# Altium footprint library Capasitor.PcbLib: 18 footprints (part 1 of 2)
Each footprint in its own frame and in the unit in brackets; x right, y up, seen from the top. Pads: shape width x height; smd on the part's side, far side on the other; paste and mask are expansions set on the pad; w line width, h text height; cw(c..) or ccw(c..) is an arc to the next point about the centre after c.
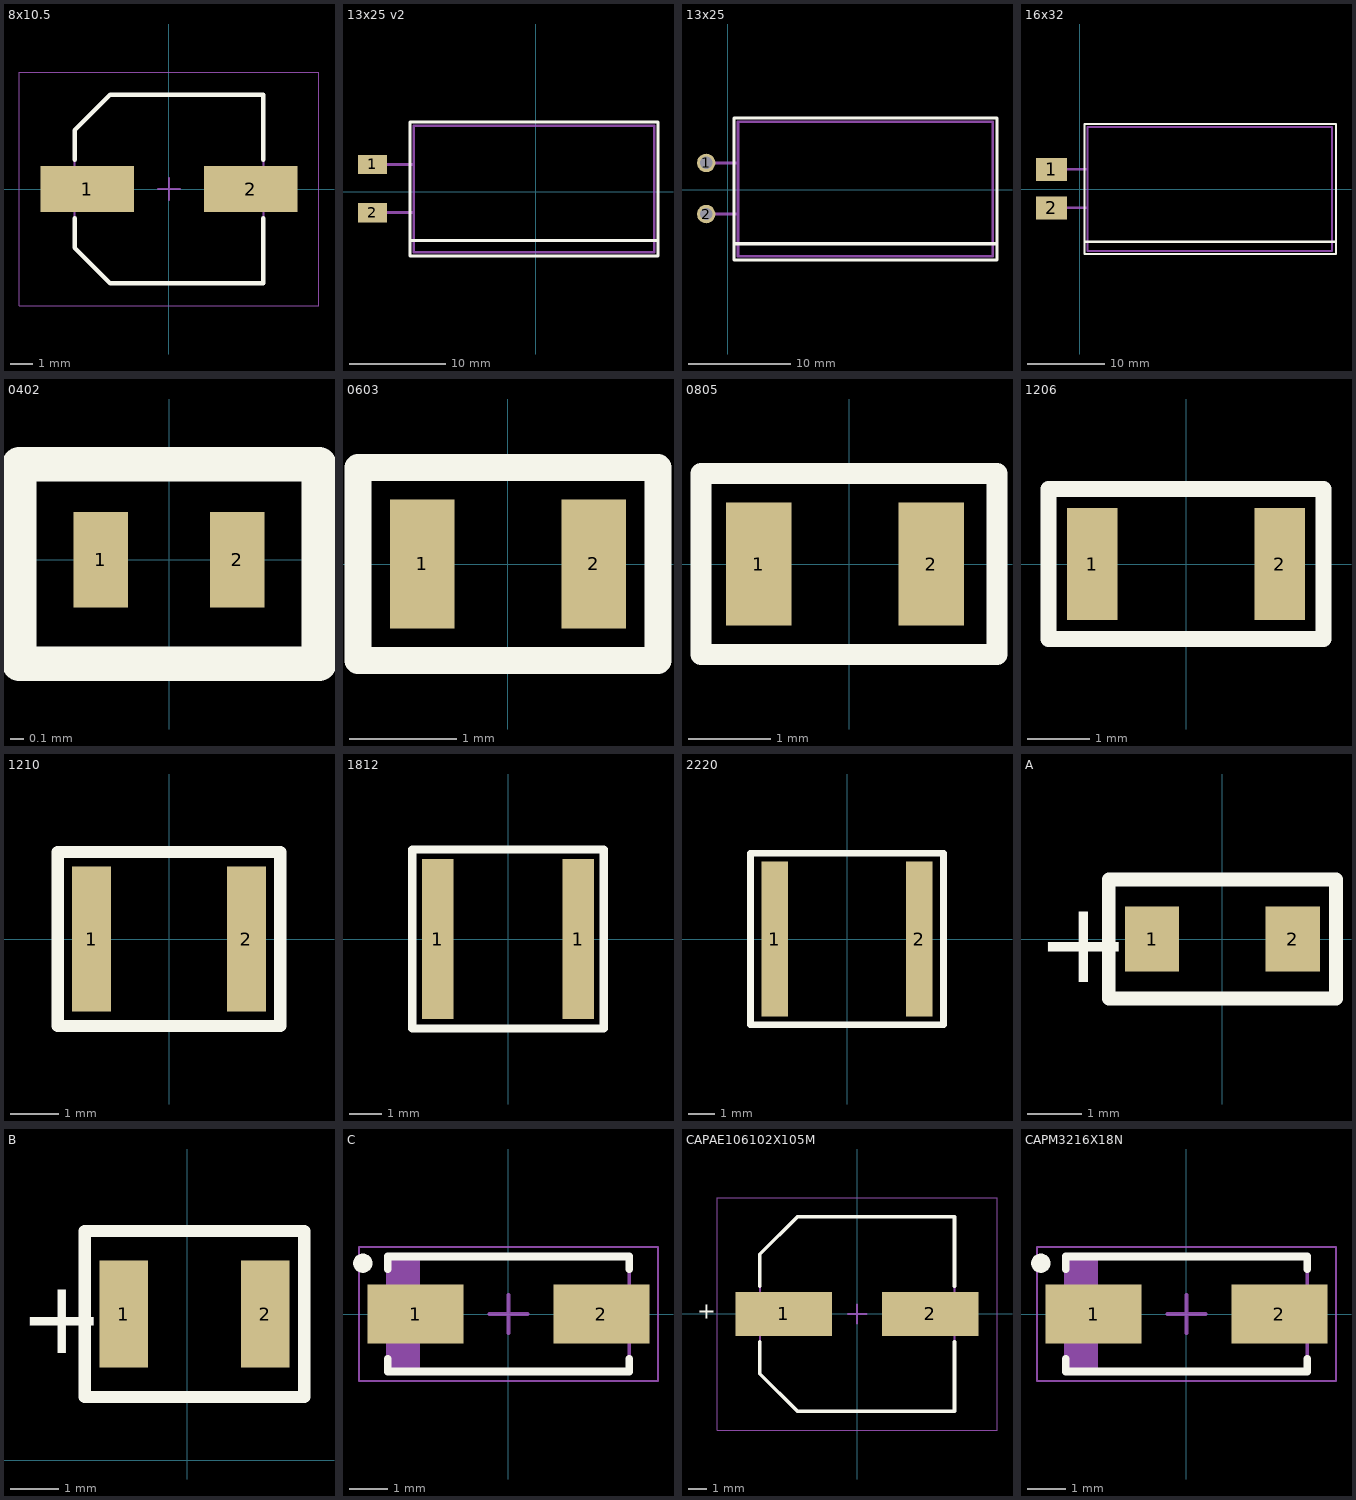
[diagram p0: the footprints below, top view; thin cyan lines are the x and y axes]

## 8x10.5 [mm] "Aluminum Electrolytic Capacitor, Body 8,30x8,30x10,50mm, IPC Low Density"
height 10.5
pads (2):
  rect 4.2x2.05 smd: 1(-3.675,0) 2(3.675,0)
Top Overlay:
  lines w0.2: -4.25,-1.325 -4.25,-2.638 -2.637,-4.25 4.25,-4.25 4.25,-1.325 ; -4.25,1.325 -4.25,2.638 -2.637,4.25 4.25,4.25 4.25,1.325
Mechanical 13:
  lines w0.1: -4.25,-2.638 -2.637,-4.25 4.25,-4.25 4.25,4.25 -2.637,4.25 -4.25,2.638 -4.25,-2.638
Mechanical 15:
  lines w0.05: -6.75,-5.25 -6.75,5.25 6.75,5.25 6.75,-5.25 -6.75,-5.25
  lines w0.1: -0.5,0 0.5,0 ; 0,-0.5 0,0.5
3D body "CAPAE9383X105M.step": height 10.5, standoff 0, extent -4.65,-4.25 4.65,4.25

## 13x25 v2 [mm]
pads (2):
  rect 3x2 smd: 1(-16.952,2.858) 2(-16.952,-2.142)
Top Overlay:
  lines w0.3: -13.052,-5.042 12.648,-5.042 ; -13.052,-6.642 -13.052,7.258 12.648,7.258 12.648,-6.642 -13.052,-6.642
Mechanical 15:
  lines w0.254: -12.652,-6.242 12.248,-6.242 12.248,6.858 -12.652,6.858 -12.652,-6.242
  lines w0.3: -15.752,-2.142 -12.752,-2.142 ; -15.752,2.858 -12.752,2.858
3D body: height 13.5, standoff 0.5, extent -12.752,-6.042 12.248,6.958

## 13х25 [mm]
pads (2):
  round 1.8 hole 1.2: 1(-2.1,2.6) 2(-2.1,-2.4)
Top Overlay:
  lines w0.3: 0.6,-5.3 26.3,-5.3 ; 0.6,-6.9 0.6,7 26.3,7 26.3,-6.9 0.6,-6.9
Mechanical 15:
  lines w0.254: 1,-6.5 25.9,-6.5 25.9,6.6 1,6.6 1,-6.5
  lines w0.3: -2.1,-2.4 0.9,-2.4 ; -2.1,2.6 0.9,2.6
3D body: height 13.5, standoff 0.5, extent 0.9,-6.3 25.9,6.7

## 16х32 [mm]
pads (2):
  rect 4x3 smd: 1(-3.7,2.6) 2(-3.7,-2.4)
Top Overlay:
  lines w0.3: 0.6,-6.8 33.2,-6.8 ; 0.6,-8.4 0.6,8.5 33.3,8.5 33.3,-8.4 0.6,-8.4
Mechanical 15:
  lines w0.254: 1,-8 32.8,-8 32.8,8.1 1,8.1 1,-8
  lines w0.3: -2.1,-2.4 0.9,-2.4 ; -2.1,2.6 0.9,2.6
3D body: height 15, standoff -1, extent 1,-7.8 33,8.2

## 0402 [mm]
pads (2):
  rect 0.4x0.7 smd mask+0.1: 1(-0.5,0) 2(0.5,0)
Top Overlay:
  lines w0.254: -1.1,-0.762 -1.1,0.7 1.1,0.7 1.1,-0.762 -1.1,-0.762
3D body: height 0.5, standoff 0, extent -0.5,-0.3 0.5,0.3

## 0603 [mm]
pads (2):
  rect 0.6x1.2 smd: 1(-0.8,0) 2(0.8,0)
Top Overlay:
  lines w0.254: -1.4,-0.9 -1.4,0.9 -0.5,0.9 0.7,0.9 1.4,0.9 1.4,-0.9 0.675,-0.9 -0.575,-0.9 -1.4,-0.9
3D body: height 0.8, standoff 0, extent -0.8,-0.45 0.8,0.45

## 0805 [mm]
pads (2):
  rect 0.8x1.5 smd: 1(-1.1,0) 2(1,0)
Top Overlay:
  lines w0.254: -1.8,-1.1 -1.8,1.1 1.8,1.1 1.8,0.55 1.8,-0.55 1.8,-1.1 -1.8,-1.1
3D body: height 1.25, standoff 0, extent -1.1,-0.65 1.1,0.65

## 1206 [mm]
pads (2):
  rect 0.8x1.8 smd: 1(-1.5,0) 2(1.5,0)
Top Overlay:
  lines w0.254: -2.2,-1.2 -2.2,1.2 2.2,1.2 2.2,-1.2 -2.2,-1.2
3D body: height 1.6, standoff 0, extent -1.55,-0.8 1.55,0.8

## 1210 [mm]
pads (2):
  rect 0.8x3 smd: 1(-1.6,0) 2(1.6,0)
Top Overlay:
  lines w0.254: -2.3,-1.8 2.3,-1.8 2.3,1.8 -2.3,1.8 -2.3,-1.8
3D body: height 0.25, standoff 0, extent -1272.54,-1272.54 -1267.46,-1267.46

## 1812 [mm]
pads (2):
  rect 1x5 smd: 1(-2.2,0) 1(2.2,0)
Top Overlay:
  lines w0.254: -3,-2.8 -3,2.8 3,2.8 3,-2.8 -3,-2.8
3D body: height 2, standoff 0, extent -2.25,-2.25 2.25,2.25

## 2220 [mm]
pads (2):
  rect 1x5.8 smd: 1(-2.7,0) 2(2.7,0)
Top Overlay:
  lines w0.254: -3.6,-3.2 3.6,-3.2 3.6,3.2 -3.6,3.2 -3.6,-3.2
3D body: height 2, standoff 0, extent -2.75,-2.65 2.75,2.65

## A [mm]
pads (2):
  rect 1x1.2 smd: 1(-1.3,0) 2(1.3,0)
Top Overlay:
  lines w0.254: -2.1,-1.1 2.1,-1.1 2.1,1.1 -2.1,1.1 -2.1,-1.1
  text "+" at -3.446,-0.8 h1.52
3D body: height 1.6, standoff 0, extent -1.6,-0.8 1.6,0.8

## B [mm]
pads (2):
  rect 1x2.2 smd: 1(-1.3,3) 2(1.6,3)
Top Overlay:
  lines w0.254: -2.1,1.3 -2.1,4.7 2.4,4.7 2.4,1.3 -2.1,1.3
  text "+" at -3.446,2.2 h1.52
3D body: height 1.6, standoff 0, extent -1.6,1.6 1.9,4.4

## C [mm]
pads (2):
  rect 2.5x1.55 smd: 1(-2.425,0) 2(2.425,0)
Top Overlay:
  circle w0.25: c-3.8,1.325 r0.125
  lines w0.2: -3.15,-1.175 -3.15,-1.5 3.15,-1.5 3.15,-1.175 ; -3.15,1.175 -3.15,1.5 3.15,1.5 3.15,1.175
Mechanical 13:
  rectangle: -3.15,-1.46 -2.303,1.46
  lines w0.1: -3.15,-1.46 3.15,-1.46 3.15,1.46 -3.15,1.46 -3.15,-1.46
Mechanical 15:
  lines w0.05: -3.9,-1.75 3.9,-1.75 3.9,1.75 -3.9,1.75 -3.9,-1.75
  lines w0.1: -0.5,0 0.5,0 ; 0,-0.5 0,0.5
3D body "CAPM3216X18N.step": height 2.5, standoff 0, extent -3.37,-1.46 3.37,1.46

## CAPAE106102X105M [mm] "Aluminum Electrolytic Capacitor, Body 10,20x10,20x10,50mm, IPC Low Density"
height 10.5
pads (2):
  rect 5.1x2.35 smd: 1(-3.875,0) 2(3.875,0)
Top Overlay:
  lines w0.2: -5.15,-1.475 -5.15,-3.163 -3.163,-5.15 5.15,-5.15 5.15,-1.475 ; -5.15,1.475 -5.15,3.162 -3.163,5.15 5.15,5.15 5.15,1.475
  text "+" at -8.475,-0.555 h1.5
Mechanical 13:
  lines w0.1: -5.15,-3.163 -3.163,-5.15 5.15,-5.15 5.15,5.15 -3.163,5.15 -5.15,3.162 -5.15,-3.163
Mechanical 15:
  lines w0.05: -7.4,-6.15 -7.4,6.15 7.4,6.15 7.4,-6.15 -7.4,-6.15
  lines w0.1: -0.5,0 0.5,0 ; 0,-0.5 0,0.5
3D body "CAPAE106102X105M.step": height 10.5, standoff 0, extent -5.3,-5.15 5.3,5.15

## CAPM3216X18N [mm]
height 2.5
pads (2):
  rect 2.5x1.55 smd: 1(-2.425,0) 2(2.425,0)
Top Overlay:
  circle w0.25: c-3.8,1.325 r0.125
  lines w0.2: -3.15,-1.175 -3.15,-1.5 3.15,-1.5 3.15,-1.175 ; -3.15,1.175 -3.15,1.5 3.15,1.5 3.15,1.175
Mechanical 13:
  rectangle: -3.15,-1.46 -2.303,1.46
  lines w0.1: -3.15,-1.46 -3.15,1.46 3.15,1.46 3.15,-1.46 -3.15,-1.46
Mechanical 15:
  lines w0.05: -3.9,-1.75 -3.9,1.75 3.9,1.75 3.9,-1.75 -3.9,-1.75
  lines w0.1: -0.5,0 0.5,0 ; 0,-0.5 0,0.5
3D body "CAPM3216X18N.step": height 2.5, standoff 0, extent -3.37,-1.46 3.37,1.46